# Altium schematic symbol library FB0805.Schlib: 1 symbol
Pins are listed as number, name and electrical type; pins without a type are passive.

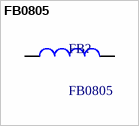
[diagram p0: symbol FB0805]

## FB0805
designator FB?
0805 Multilayer Ferrite Power Bead
pins: 1, 2